# Altium integrated library IRF540.IntLib: 1 symbol
Pins are listed as number, name and electrical type; pins without a type are passive.

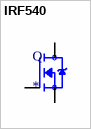
[diagram p0: symbol IRF540]

## IRF540
designator Q
N-Channel 100V 22A _Tc_ 85W _Tc_ Through Hole TO-220AB; MF: Vishay; MP: IRF540; Package: TO-220-3 Samsung; Price: None; Availability: Unavailable; SnapEDA_Link: https://www.snapeda.com/parts/IRF540/Vishay%20Siliconix/view-part/1024526/?ref=snap; Value: *
footprint TO254P1052X465X1989-3
pins: 1 G, 2 D, 3 S